# EAGLE library part 691701500009B (library Eagle_WR-TBL Pluggable Connector (rev21a))
WR-TBL Serie 7015B - 5.08 mm Open Vertical PCB Header THR Type KIND PROPERTIES Pitch 5.08 mm MATERIAL PROPERTIES Insulator Material LCP Insulator Flammability Rating UL94 V-0 Contact Material Brass Contact Plating Tin GENERAL INFORMATION Operating Temperature -40 up to +105 °C Compliance RoHS ELECTRICAL PROPERTIES IR cULus 10 A Working Voltage [cULus] 300 V (AC) Withstanding Voltage [cULus] 4000 V (AC) Contact Resistance [cULus] 20 mΩ CERTIFICATION cULus Approval E315414 <https://www.we-online.com/catalog/media/o33332v209%20Family_WR-TBL_6917015000xxB.jpg> Details see: https://www.we-online.com/catalog/en/TBL_5_08_THR_7015B_OPEN_VERTICAL_PCB_HEADER_6917015000XXB/ Updated by Ella Wu 2019-12-27 2019(C) Wurth Elektronik
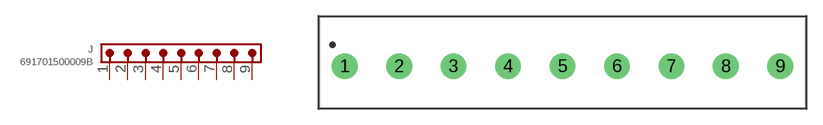
[diagram p396: symbol with the pads of 691701500009B; footprint 691701500009B]

Designator prefix J

## 691701500009B (DATASHEET-URL: https://www.we-online.com/catalog/datasheet/691701500009B.pdf; IR-UL: 10A; MOUNT: THT; PART-NUMBER: 691701500009B; PINS: 9; PITCH: 5.08mm; TYPE: Vertical; VALUE: 691701500009B; WORKING-VOLTAGE-UL: 300V (AC))  [691701500009B]
1  1  pas
2  2  pas
3  3  pas
4  4  pas
5  5  pas
6  6  pas
7  7  pas
8  8  pas
9  9  pas

## Footprint 691701500009B (pad centres in mm)
WR-TBL Serie 7015B - 5.08 mm Open Vertical PCB Header THR Type Max Height = 12mm , Pitch 5.08mm , 9pins
drill 1.6: 1 -20.32,0; 2 -15.24,0; 3 -10.16,0; 4 -5.08,0; 5 0,0; 6 5.08,0; 7 10.16,0; 8 15.24,0; 9 20.32,0